# EAGLE library part ICS-43434 (library NicksParts)
Invensense I2S MEMS microphone
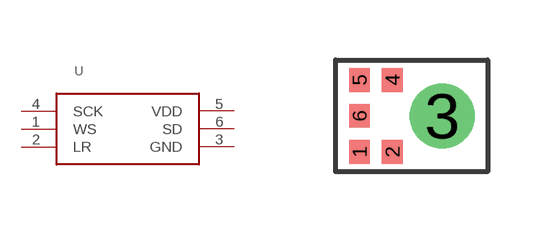
[diagram p24: symbol with the pads of ICS-43434; footprint ICS-43434]

Designator prefix U

## ICS-43434  [ICS-43434]
1  WS
2  LR
3  GND
4  SCK
5  VDD
6  SD

## Footprint ICS-43434 (pad centres in mm)
smd 0.522 x 0.6: 1 0,-0.9; 2 0.822,-0.9; 4 0.822,0.9; 5 0,0.9; 6 0,0
drill 1.025 pad 1.625: 3 2.074,0